# Altium footprint library Fuse_Clip.PcbLib: 1 footprints
Each footprint in its own frame and in the unit in brackets; x right, y up, seen from the top. Pads: shape width x height; smd on the part's side, far side on the other; paste and mask are expansions set on the pad; w line width, h text height; cw(c..) or ccw(c..) is an arc to the next point about the centre after c.
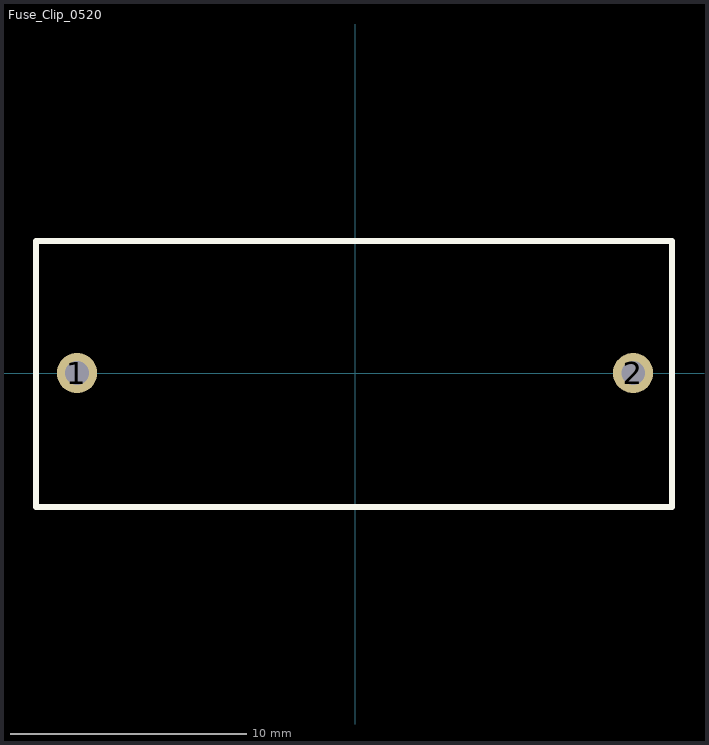
[diagram p0: the footprint, top view; thin cyan lines are the x and y axes]

## Fuse_Clip_0520 [mm] "Clip Fuse, Size 0520"
pads (2):
  round 1.7 hole 1: 1(-11.75,0) 2(11.75,0)
Top Overlay:
  lines w0.254: -13.49,-5.67 13.4,-5.67 13.4,5.59 -13.49,5.59 -13.49,-5.67
3D body "Fuse_holder.stp": height 15.1, standoff -5.11, extent -12.8,-5 12.2,5